# EAGLE library part FSTD16211MTDX (library Fairchild_By_element14_Batch_1)
24-Bit Bus Switch with Level Shifting
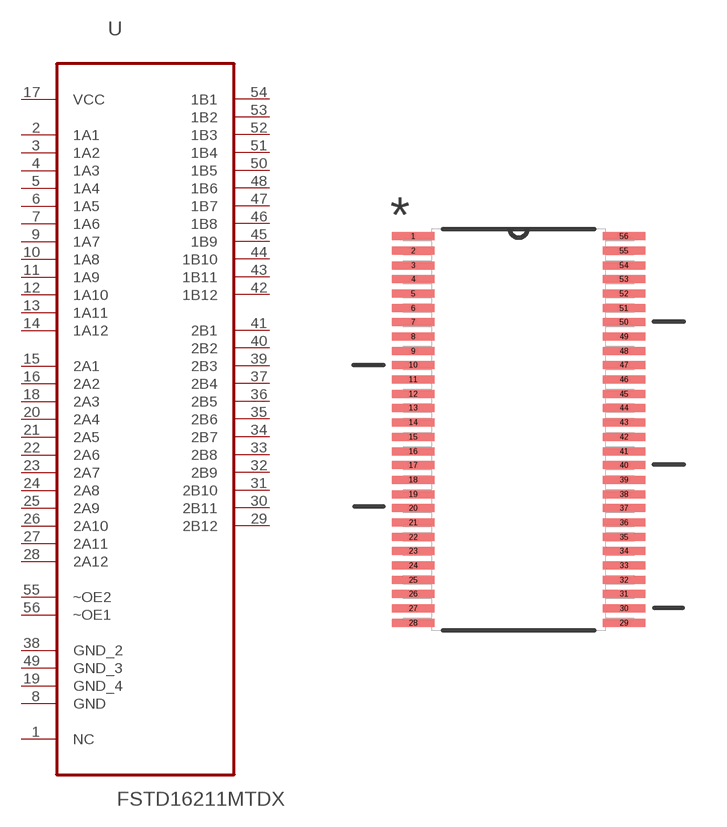
[diagram p196: symbol with the pads of SOP50P810X90-56N; footprint SOP50P810X90-56N]

Designator prefix U

## FSTD16211MTDX (MPN: FSTD16211MTDX; OC_FARNELL: 1467288; OC_NEWARK: 78K5964; PACKAGE: TSSOP-56; SUPPLIER: FAIRCHILD SEMICONDUCTOR)  [SOP50P810X90-56N]
1  NC  nc
2  1A1
3  1A2
4  1A3
5  1A4
6  1A5
7  1A6
8  GND  pas
9  1A7
10  1A8
11  1A9
12  1A10
13  1A11
14  1A12
15  2A1
16  2A2
17  VCC  pas
18  2A3
19  GND_4  pas
20  2A4
21  2A5
22  2A6
23  2A7
24  2A8
25  2A9
26  2A10
27  2A11
28  2A12
29  2B12
30  2B11
31  2B10
32  2B9
33  2B8
34  2B7
35  2B6
36  2B5
37  2B4
38  GND_2  pas
39  2B3
40  2B2
41  2B1
42  1B12
43  1B11
44  1B10
45  1B9
46  1B8
47  1B7
48  1B6
49  GND_3  pas
50  1B5
51  1B4
52  1B3
53  1B2
54  1B1
55  ~OE2  in
56  ~OE1  in

## Footprint SOP50P810X90-56N (pad centres in mm)
smd 1.473 x 0.279: 1 -3.683,6.756; 2 -3.683,6.248; 3 -3.683,5.74; 4 -3.683,5.258; 5 -3.683,4.75; 6 -3.683,4.242; 7 -3.683,3.759; 8 -3.683,3.251; 9 -3.683,2.743; 10 -3.683,2.261; 11 -3.683,1.753; 12 -3.683,1.245; 13 -3.683,0.762; 14 -3.683,0.254; 15 -3.683,-0.254; 16 -3.683,-0.762; 17 -3.683,-1.245; 18 -3.683,-1.753; 19 -3.683,-2.261; 20 -3.683,-2.743; 21 -3.683,-3.251; 22 -3.683,-3.759; 23 -3.683,-4.242; 24 -3.683,-4.75; 25 -3.683,-5.258; 26 -3.683,-5.74; 27 -3.683,-6.248; 28 -3.683,-6.756; 29 3.683,-6.756; 30 3.683,-6.248; 31 3.683,-5.74; 32 3.683,-5.258; 33 3.683,-4.75; 34 3.683,-4.242; 35 3.683,-3.759; 36 3.683,-3.251; 37 3.683,-2.743; 38 3.683,-2.261; 39 3.683,-1.753; 40 3.683,-1.245; 41 3.683,-0.762; 42 3.683,-0.254; 43 3.683,0.254; 44 3.683,0.762; 45 3.683,1.245; 46 3.683,1.753; 47 3.683,2.261; 48 3.683,2.743; 49 3.683,3.251; 50 3.683,3.759; 51 3.683,4.242; 52 3.683,4.75; 53 3.683,5.258; 54 3.683,5.74; 55 3.683,6.248; 56 3.683,6.756